# EAGLE library part SN74LVC2G17DBVR (library MM24I)
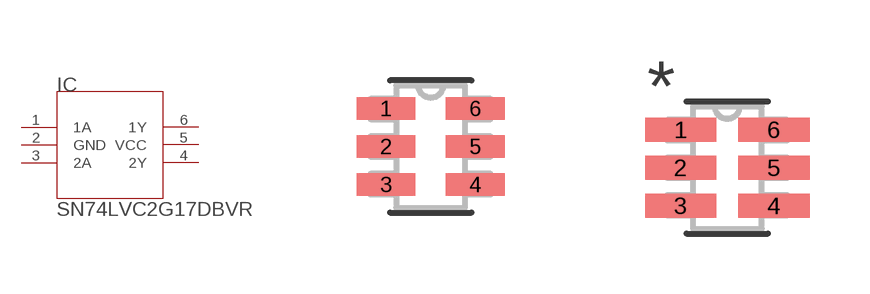
[diagram p4: symbol with the pads of DBV6; footprints DBV6, DBV6-M]

Designator prefix IC

## SN74LVC2G17DBVR (BUILT_BY: EMA_UL_Team; MANUFACTURER: Texas Instruments; MANUFACTURER_PART_NUMBER: SN74LVC2G17DBVR; VENDOR: Texas Instruments)  [DBV6]
1  1A  in
2  GND  pwr
3  2A  in
4  2Y  out
5  VCC  pwr
6  1Y  out

## SN74LVC2G17DBVRDBV6-M (BUILT_BY: EMA_UL_Team; MANUFACTURER: Texas Instruments; MANUFACTURER_PART_NUMBER: SN74LVC2G17DBVR; VENDOR: Texas Instruments)  [DBV6-M]
Pads as for DBV6

## SN74LVC2G17DBVRDBV6-L (BUILT_BY: EMA_UL_Team; MANUFACTURER: Texas Instruments; MANUFACTURER_PART_NUMBER: SN74LVC2G17DBVR; VENDOR: Texas Instruments)  [DBV6-L]
Pads as for DBV6

## Footprint DBV6 (pad centres in mm)
smd 1.473 x 0.559: 1 -1.118,0.95; 2 -1.118,0; 3 -1.118,-0.95; 4 1.118,-0.95; 5 1.118,0; 6 1.118,0.95

## Footprint DBV6-M (pad centres in mm)
smd 1.778 x 0.61: 1 -1.168,0.95; 2 -1.168,0; 3 -1.168,-0.95; 4 1.168,-0.95; 5 1.168,0; 6 1.168,0.95

## Footprint DBV6-L (pad centres in mm)
smd 1.168 x 0.508: 1 -1.067,0.95; 2 -1.067,0; 3 -1.067,-0.95; 4 1.067,-0.95; 5 1.067,0; 6 1.067,0.95